# Altium schematic symbol library ZENER.SchLib: 1 symbol
Pins are listed as number, name and electrical type; pins without a type are passive.

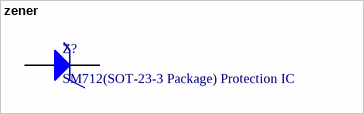
[diagram p0: symbol zener]

## zener
designator Z?, comment SM712(SOT-23-3 Package) Protection IC
Manufacturer: MCC; Manufacturer Part Number: SLVU2.8-TP; Brand: Micro Commercial Components (MCC); Product Category: ESD Suppressors; Packaging: Reel; Series: SLVU2.8; Factory Pack Quantity: 3000; ComponentLink1URL: http://www.mccsemi.com/up_pdf/slvu2.8(sot-23).pdf; ComponentLink1Description: http://www.mccsemi.com/up_pdf/slvu2.8(sot-23).pdf; Supplier 1: Arrow; Supplier Part Number 1: SLVU2.8-TP**MULT1; Stock 1: 0; RoHS: Details
footprint SOT95P245X110-3N (SOT23, 3-Leads, Body 2.92x2.45mm, Pitch 0.95mm, IPC Medium Density)